# Altium footprint library Common Devices.PcbLib: 33 footprints (part 1 of 3)
Each footprint in its own frame and in the unit in brackets; x right, y up, seen from the top. Pads: shape width x height; smd on the part's side, far side on the other; paste and mask are expansions set on the pad; w line width, h text height; cw(c..) or ccw(c..) is an arc to the next point about the centre after c.
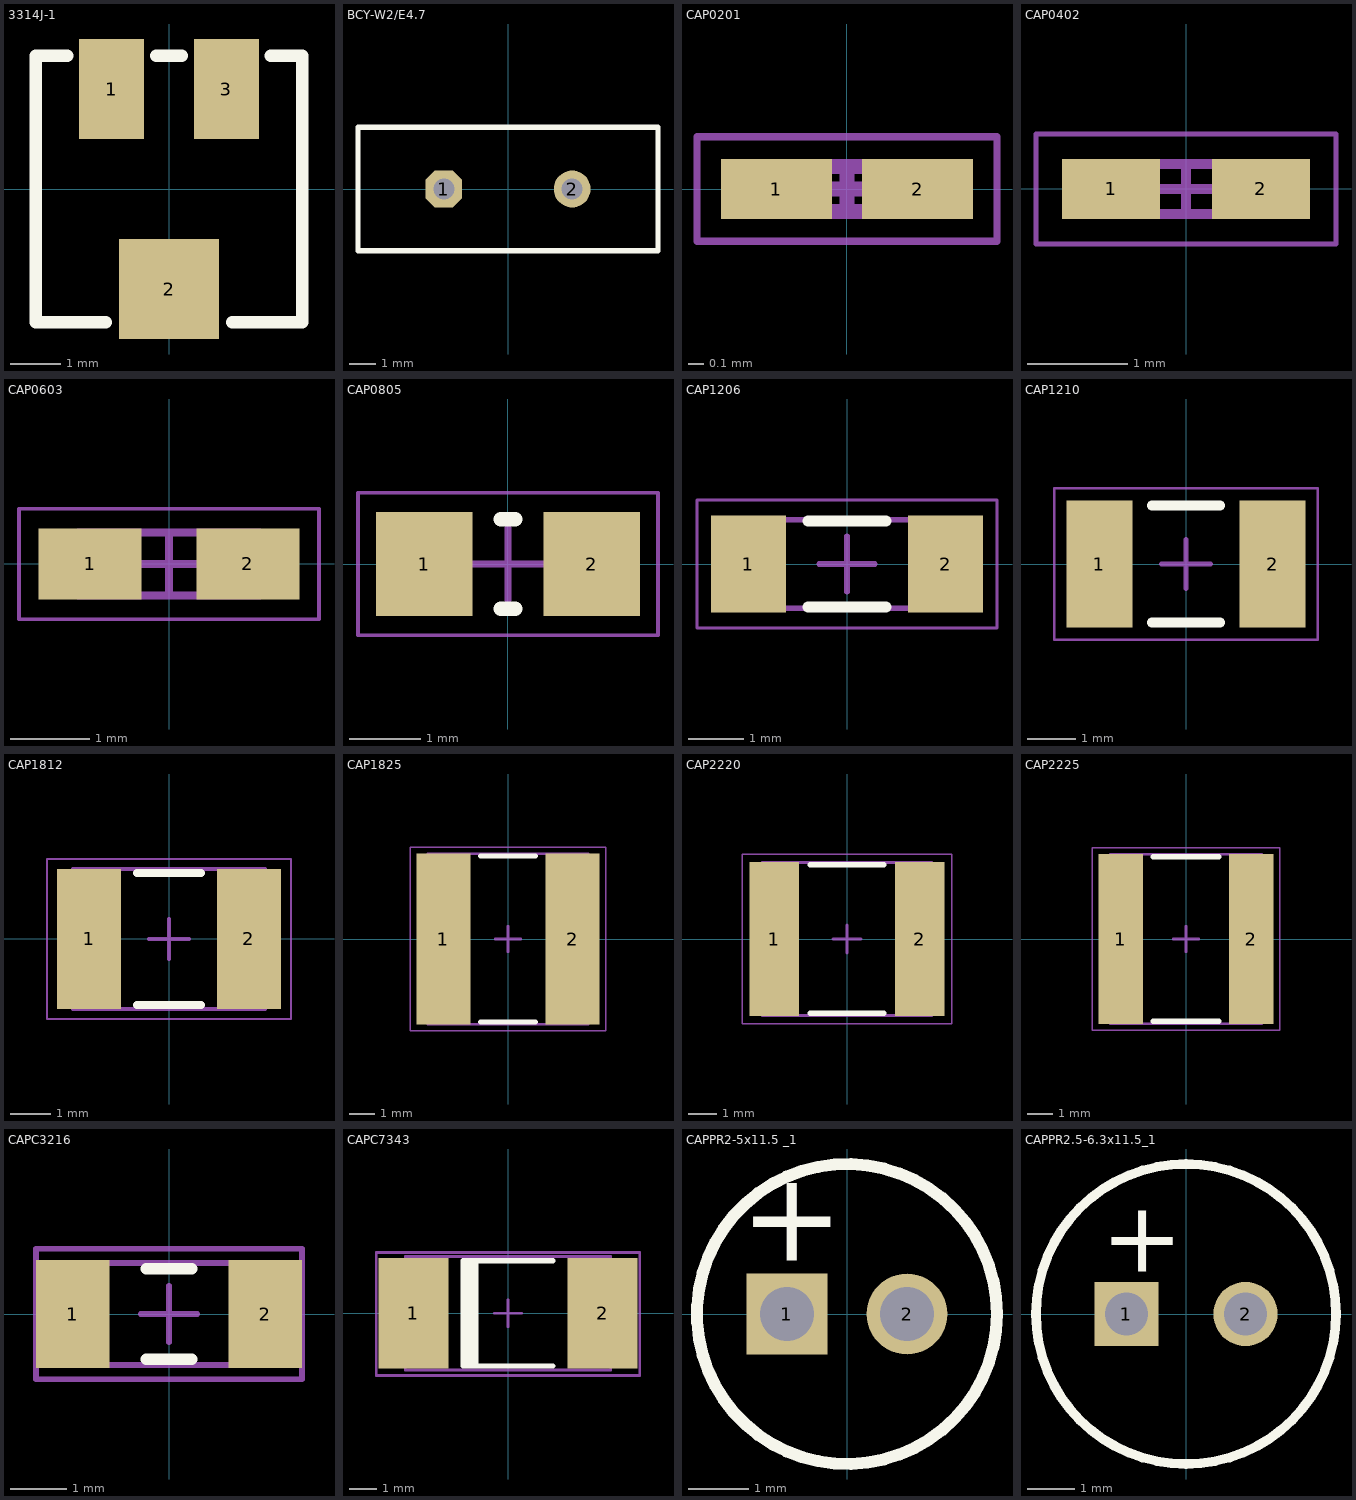
[diagram p0: the footprints below, top view; thin cyan lines are the x and y axes]

## 3314J-1 [mm] "Square trimming potentiometer"
height 2.55
pads (3):
  rect 1.3x2 smd: 1(-1.15,2) 3(1.15,2)
  rect 2x2 smd: 2(0,-2)
Top Overlay:
  lines w0.25: -2.032,2.667 -2.667,2.667 -2.667,-2.667 -1.27,-2.667 ; -0.254,2.667 0.254,2.667 ; 1.27,-2.667 2.667,-2.667 2.667,2.667 2.032,2.667

## BCY-W2/E4.7 [mm] "Quartz Crystal, Thru-Hole; 2 Leads; Body 11.35 x 4.65 x 13.46 mm (LxWxH max)"
height 13.46
pads (2):
  oct 1.4x1.4 hole 0.8: 1(-2.44,0)
  round 1.4 hole 0.8: 2(2.44,0)
Top Overlay:
  lines w0.2: -5.7,-2.35 5.7,-2.35 5.7,2.35 -5.7,2.35 -5.7,-2.35
3D body "HC-49_LT_THT.STEP": height 3.6, standoff -1.99, extent -5.675,-2.325 5.675,2.325

## CAP0201 [mm] "Chip Capacitor, 2-Leads, Body 0.65x0.30mm, IPC Medium Density"
height 0.55
pads (2):
  rect 0.74x0.4 smd: 1(-0.47,0) 2(0.47,0)
Mechanical 13:
  lines w0.1: -0.325,-0.15 -0.325,0.15 0.325,0.15 0.325,-0.15 -0.325,-0.15
Mechanical 15:
  lines w0.05: -1,-0.35 -1,0.35 1,0.35 1,-0.35 -1,-0.35
  lines w0.1: -0.15,0 0.15,0 ; 0,-0.15 0,0.15
3D body: height 0.55, standoff 0, extent -0.115,-0.15 0.115,0.15
3D body: height 0.55, standoff 0, extent -0.325,-0.15 -0.115,0.15
3D body: height 0.55, standoff 0, extent 0.115,-0.15 0.325,0.15

## CAP0402 [mm]
height 0.55
pads (2):
  rect 0.98x0.6 smd: 1(-0.75,0) 2(0.75,0)
Mechanical 13:
  lines w0.1: -0.75,-0.25 -0.75,0.25 0.75,0.25 0.75,-0.25 -0.75,-0.25
Mechanical 15:
  lines w0.05: -1.5,-0.55 -1.5,0.55 1.5,0.55 1.5,-0.55 -1.5,-0.55
  lines w0.1: -0.25,0 0.25,0 ; 0,-0.25 0,0.25
3D body: height 0.55, standoff 0, extent -0.25,-0.25 0.25,0.25
3D body: height 0.55, standoff 0, extent -0.75,-0.25 -0.25,0.25
3D body: height 0.55, standoff 0, extent 0.25,-0.25 0.75,0.25

## CAP0603 [mm]
height 0.55
pads (2):
  rect 1.3x0.9 smd: 1(-1,0) 2(1,0)
Mechanical 13:
  lines w0.1: -1.15,-0.4 1.15,-0.4 1.15,0.4 -1.15,0.4 -1.15,-0.4
Mechanical 15:
  lines w0.05: -1.9,-0.7 1.9,-0.7 1.9,0.7 -1.9,0.7 -1.9,-0.7
  lines w0.1: -0.4,0 0.4,0 ; 0,-0.4 0,0.4
3D body: height 0.55, standoff 0, extent 0.35,-0.4 1.15,0.4
3D body: height 0.55, standoff 0, extent -1.15,-0.4 -0.35,0.4
3D body: height 0.55, standoff 0, extent -0.35,-0.4 0.35,0.4

## CAP0805 [mm]
height 0.55
pads (2):
  rect 1.35x1.45 smd: 1(-1.175,0) 2(1.175,0)
Top Overlay:
  lines w0.2: -0.1,-0.625 0.1,-0.625 ; -0.1,0.625 0.1,0.625
Mechanical 15:
  lines w0.05: -2.1,-1 2.1,-1 2.1,1 -2.1,1 -2.1,-1
  lines w0.1: -0.5,0 0.5,0 ; 0,-0.5 0,0.5
3D body "CAP_2012-0805.step": height 0.91, standoff 0.01, extent -1,-0.625 1,0.625

## CAP1206 [mm]
height 0.55
pads (2):
  rect 1.35x1.75 smd: 1(-1.775,0) 2(1.775,0)
Top Overlay:
  lines w0.2: -0.7,-0.775 0.7,-0.775 ; -0.7,0.775 0.7,0.775
Mechanical 13:
  lines w0.1: -2,-0.8 2,-0.8 2,0.8 -2,0.8 -2,-0.8
Mechanical 15:
  lines w0.05: -2.7,-1.15 2.7,-1.15 2.7,1.15 -2.7,1.15 -2.7,-1.15
  lines w0.1: -0.5,0 0.5,0 ; 0,-0.5 0,0.5
3D body: height 0.55, standoff 0, extent 1.1,-0.8 2,0.8
3D body: height 0.55, standoff 0, extent -2,-0.8 -1.1,0.8
3D body: height 0.55, standoff 0, extent -1.1,-0.8 1.1,0.8

## CAP1210 [mm]
height 0.55
pads (2):
  rect 1.35x2.6 smd: 1(-1.775,0) 2(1.775,0)
Top Overlay:
  lines w0.2: -0.7,-1.2 0.7,-1.2 ; -0.7,1.2 0.7,1.2
Mechanical 15:
  lines w0.05: -2.7,-1.55 -2.7,1.55 2.7,1.55 2.7,-1.55 -2.7,-1.55
  lines w0.1: -0.5,0 0.5,0 ; 0,-0.5 0,0.5
3D body "CAP_1210.step": height 0.79, standoff 0.01, extent -1.6,-1.25 1.6,1.25

## CAP1812 [mm]
height 0.55
pads (2):
  rect 1.6x3.5 smd: 1(-2,0) 2(2,0)
Top Overlay:
  lines w0.2: -0.8,-1.65 0.8,-1.65 ; -0.8,1.65 0.8,1.65
Mechanical 13:
  lines w0.1: -2.4,-1.75 -2.4,1.75 2.4,1.75 2.4,-1.75 -2.4,-1.75
Mechanical 15:
  lines w0.05: -3.05,-2 -3.05,2 3.05,2 3.05,-2 -3.05,-2
  lines w0.1: -0.5,0 0.5,0 ; 0,-0.5 0,0.5
3D body: height 0.55, standoff 0, extent -1.8,-1.75 1.8,1.75
3D body: height 0.55, standoff 0, extent -2.4,-1.75 -1.8,1.75
3D body: height 0.55, standoff 0, extent 1.8,-1.75 2.4,1.75

## CAP1825 [mm]
height 0.55
pads (2):
  rect 2.15x6.8 smd: 1(-2.575,0) 2(2.575,0)
Top Overlay:
  lines w0.2: -1.1,-3.3 1.1,-3.3 ; -1.1,3.3 1.1,3.3
Mechanical 13:
  lines w0.1: -3.2,-3.4 -3.2,3.4 3.2,3.4 3.2,-3.4 -3.2,-3.4
Mechanical 15:
  lines w0.05: -3.9,-3.65 -3.9,3.65 3.9,3.65 3.9,-3.65 -3.9,-3.65
  lines w0.1: -0.5,0 0.5,0 ; 0,-0.5 0,0.5
3D body: height 0.55, standoff 0, extent -2.6,-3.4 2.6,3.4
3D body: height 0.55, standoff 0, extent -3.2,-3.4 -2.6,3.4
3D body: height 0.55, standoff 0, extent 2.6,-3.4 3.2,3.4

## CAP2220 [mm]
height 0.55
pads (2):
  rect 1.75x5.45 smd: 1(-2.575,0) 2(2.575,0)
Top Overlay:
  lines w0.2: -1.3,-2.625 1.3,-2.625 ; -1.3,2.625 1.3,2.625
Mechanical 13:
  lines w0.1: -3,-2.7 3,-2.7 3,2.7 -3,2.7 -3,-2.7
Mechanical 15:
  lines w0.05: -3.7,-3 3.7,-3 3.7,3 -3.7,3 -3.7,-3
  lines w0.1: -0.5,0 0.5,0 ; 0,-0.5 0,0.5
3D body: height 0.55, standoff 0, extent 2.4,-2.7 3,2.7
3D body: height 0.55, standoff 0, extent -3,-2.7 -2.4,2.7
3D body: height 0.55, standoff 0, extent -2.4,-2.7 2.4,2.7

## CAP2225 [mm]
height 0.55
pads (2):
  rect 1.75x6.7 smd: 1(-2.575,0) 2(2.575,0)
Top Overlay:
  lines w0.2: -1.3,-3.25 1.3,-3.25 ; -1.3,3.25 1.3,3.25
Mechanical 13:
  lines w0.1: -3,-3.35 -3,3.35 3,3.35 3,-3.35 -3,-3.35
Mechanical 15:
  lines w0.05: -3.7,-3.6 -3.7,3.6 3.7,3.6 3.7,-3.6 -3.7,-3.6
  lines w0.1: -0.5,0 0.5,0 ; 0,-0.5 0,0.5
3D body: height 0.55, standoff 0, extent -2.4,-3.35 2.4,3.35
3D body: height 0.55, standoff 0, extent -3,-3.35 -2.4,3.35
3D body: height 0.55, standoff 0, extent 2.4,-3.35 3,3.35

## CAPC3216 [mm] "Chip Capacitor, Body 3.2x1.6mm, IPC Medium Density"
height 1.35
pads (2):
  rect 1.3x1.9 smd: 1(-1.7,0) 2(1.7,0)
Top Overlay:
  lines w0.2: -0.4,-0.8 0.4,-0.8 ; -0.4,0.8 0.4,0.8
Mechanical 13:
  lines w0.1: -1.7,-0.9 -1.7,0.9 1.7,0.9 1.7,-0.9 -1.7,-0.9
Mechanical 15:
  lines w0.1: -0.5,0 0.5,0 ; 0,-0.5 0,0.5 ; -2.35,-1.15 -2.35,1.15 2.35,1.15 2.35,-1.15 -2.35,-1.15
3D body "User Library-CAPC3216X___CAPC3216X100N.STEP": height 1.02, standoff 0, extent -1.6,-0.81 1.6,0.81

## CAPC7343 [mm] "Chip Capacitor, Body 7.3x4.3mm, IPC Medium Density"
height 2.9
pads (2):
  rect 2.6x4.1 smd: 1(-3.5,0) 2(3.5,0)
Top Overlay:
  rectangle: -1.65,-1.95 -1.1,1.95
  lines w0.2: 1.65,-1.95 -1.65,-1.95 -1.65,1.95 1.65,1.95
Mechanical 13:
  lines w0.1: -3.8,-2.1 3.8,-2.1 3.8,2.1 -3.8,2.1 -3.8,-2.1
Mechanical 15:
  lines w0.1: -0.5,0 0.5,0 ; 0,-0.5 0,0.5 ; -4.875,-2.3 4.875,-2.3 4.875,2.25 -4.875,2.25 -4.875,-2.3
3D body "User Library-CAP_TANT_7343-31.STEP": height 3.1, standoff 0, extent -3.8,-2.3 3.8,2.3

## CAPPR2-5x11.5 _1 [mm] "Capacitor, Electrolytic, Radial; Body 5x 11.5 mm (Dia.xH typ); Pin Spacing 2 mm (typ)"
height 13
pads (2):
  rect 1.35x1.35 hole 0.9: 1(-1,0)
  round 1.35 hole 0.9: 2(1,0)
Top Overlay:
  circle w0.2: c0,0 r2.5
  text "+" at -1.778,0.889 h1.5
3D body "SW3dPS-Cap electro 5x11x2mm.STEP": height 11.4, standoff -3.4, extent -2.525,-2.525 2.526,2.526

## CAPPR2.5-6.3x11.5_1 [mm] "Capacitor, Electrolytic, Radial; Body 6.3 x 11.5 mm (Dia.xH typ); Pin Spacing 2.5 mm (typ)"
height 13
pads (2):
  rect 1.35x1.35 hole 0.9: 1(-1.25,0)
  round 1.35 hole 0.9: 2(1.25,0)
Top Overlay:
  circle w0.2: c0,0 r3.15
  text "+" at -1.778,0.889 h1.5
3D body "User Library-Cap electro 6_3x12_5x2_5mm.STEP": height 13.03, standoff -3.01, extent -3.175,-3.175 3.176,3.176